# EAGLE library part HFA1112IBZ (library Intersil_By_element14_Batch_1)
850MHz, Low Distortion Programmable Gain Buffer Amplifiers
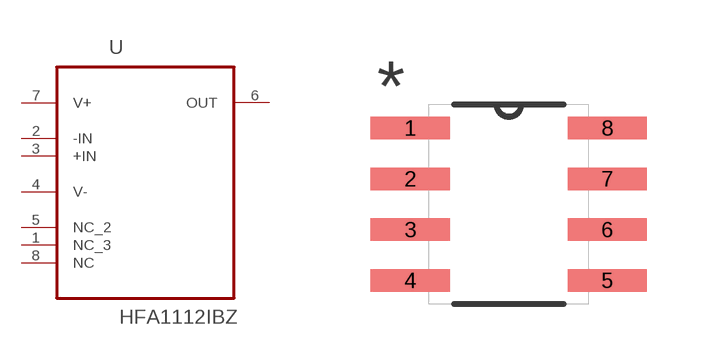
[diagram p110: symbol with the pads of SOIC127P600X175-8N; footprint SOIC127P600X175-8N]

Designator prefix U

## HFA1112IBZ (MPN: HFA1112IBZ; OC_FARNELL: 1561998; OC_NEWARK: 79K6797; PACKAGE: SOIC-8; SUPPLIER: INTERSIL)  [SOIC127P600X175-8N]
1  NC_3  nc
2  -IN  in
3  +IN  in
4  V-  pwr
5  NC_2  nc
6  OUT  out
7  V+  pwr
8  NC  nc

## Footprint SOIC127P600X175-8N (pad centres in mm)
smd 1.981 x 0.559: 1 -2.464,1.905; 2 -2.464,0.635; 3 -2.464,-0.635; 4 -2.464,-1.905; 5 2.464,-1.905; 6 2.464,-0.635; 7 2.464,0.635; 8 2.464,1.905